# EAGLE library part WE-LAN_10/100_BASETX_749010044 (library Wuerth_Elektronik_eiSos_ v6.0)
LAN-Transformer WE-LAN 10/100 Base Tx - Compliant with IEEE 802.3 standards - SMD -- Ethernet -- Power over Ethernet -- 1 Gigabit Ethernet -- Compliant with most IC's for ethernet applications like Intel, AMD, Globespan and Realtek -- Hub, Router, Switch
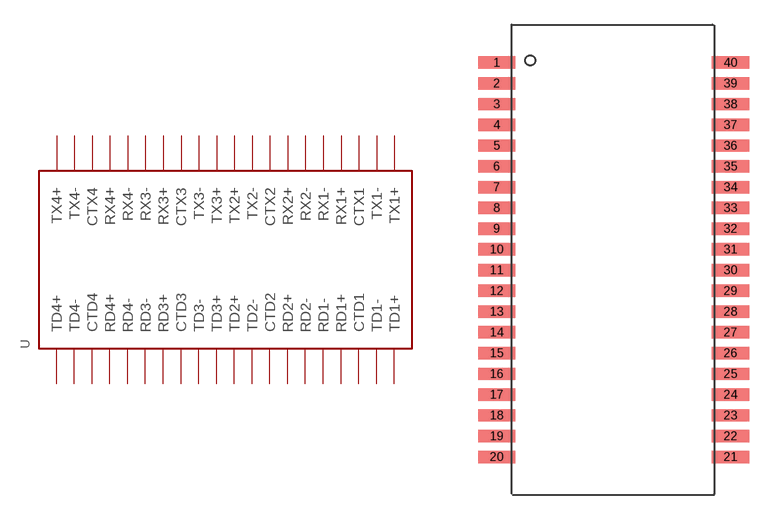
[diagram p28: symbol with the pads of WE-LAN_10/100_BASETX_749010044; footprint WE-LAN_10/100_BASETX_749010044]

Designator prefix -

## WE-LAN_10/100_BASETX_749010044  [WE-LAN_10/100_BASETX_749010044]
1  TD4+  pas
2  TD4-  pas
3  CTD4  pas
4  RD4+  pas
5  RD4-  pas
6  RD3-  pas
7  RD3+  pas
8  CTD3  pas
9  TD3-  pas
10  TD3+  pas
11  TD2+  pas
12  TD2-  pas
13  CTD2  pas
14  RD2+  pas
15  RD2-  pas
16  RD1-  pas
17  RD1+  pas
18  CTD1  pas
19  TD1-  pas
20  TD1+  pas
21  TX1+  pas
22  TX1-  pas
23  CTX1  pas
24  RX1+  pas
25  RX1-  pas
26  RX2-  pas
27  RX2+  pas
28  CTX2  pas
29  TX2-  pas
30  TX2+  pas
31  TX3+  pas
32  TX3-  pas
33  CTX3  pas
34  RX3+  pas
35  RX3-  pas
36  RX4-  pas
37  RX4+  pas
38  CTX4  pas
39  TX4-  pas
40  TX4+  pas

## Footprint WE-LAN_10/100_BASETX_749010044 (pad centres in mm)
WE-LAN 10/100 BaseTx
smd 2.29 x 0.76: 1 -7.15,12.065; 2 -7.15,10.795; 3 -7.15,9.525; 4 -7.15,8.255; 5 -7.15,6.985; 6 -7.15,5.715; 7 -7.15,4.445; 8 -7.15,3.175; 9 -7.15,1.905; 10 -7.15,0.635; 11 -7.15,-0.635; 12 -7.15,-1.905; 13 -7.15,-3.175; 14 -7.15,-4.445; 15 -7.15,-5.715; 16 -7.15,-6.985; 17 -7.15,-8.255; 18 -7.15,-9.525; 19 -7.15,-10.795; 20 -7.15,-12.065; 21 7.15,-12.065; 22 7.15,-10.795; 23 7.15,-9.525; 24 7.15,-8.255; 25 7.15,-6.985; 26 7.15,-5.715; 27 7.15,-4.445; 28 7.15,-3.175; 29 7.15,-1.905; 30 7.15,-0.635; 31 7.15,0.635; 32 7.15,1.905; 33 7.15,3.175; 34 7.15,4.445; 35 7.15,5.715; 36 7.15,6.985; 37 7.15,8.255; 38 7.15,9.525; 39 7.15,10.795; 40 7.15,12.065